# EAGLE library part USB2UART (library usb2uart)
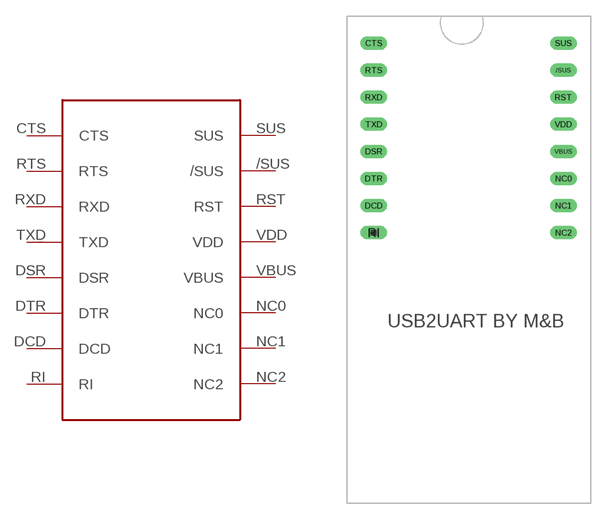
[diagram p0: symbol with the pads of USB2UART; footprint USB2UART]

Designator prefix -

## USB2UART  [USB2UART]
/SUS  /SUS
CTS  CTS
DCD  DCD
DSR  DSR
DTR  DTR
NC0  NC0  nc
NC1  NC1  nc
NC2  NC2  nc
RI  RI
RST  RST
RTS  RTS
RXD  RXD
SUS  SUS
TXD  TXD
VBUS  VBUS
VDD  VDD

## Footprint USB2UART (pad centres in mm)
drill 0.406 pad 1.27 long: /SUS 8.89,15.24; CTS -8.89,17.78; DCD -8.89,2.54; DSR -8.89,7.62; DTR -8.89,5.08; NC0 8.89,5.08; NC1 8.89,2.54; NC2 8.89,0; RI -8.89,0; RST 8.89,12.7; RTS -8.89,15.24; RXD -8.89,12.7; SUS 8.89,17.78; TXD -8.89,10.16; VBUS 8.89,7.62; VDD 8.89,10.16